# Altium footprint library ADS7824U1K.PcbLib: 3 footprints
Each footprint in its own frame and in the unit in brackets; x right, y up, seen from the top. Pads: shape width x height; smd on the part's side, far side on the other; paste and mask are expansions set on the pad; w line width, h text height; cw(c..) or ccw(c..) is an arc to the next point about the centre after c.
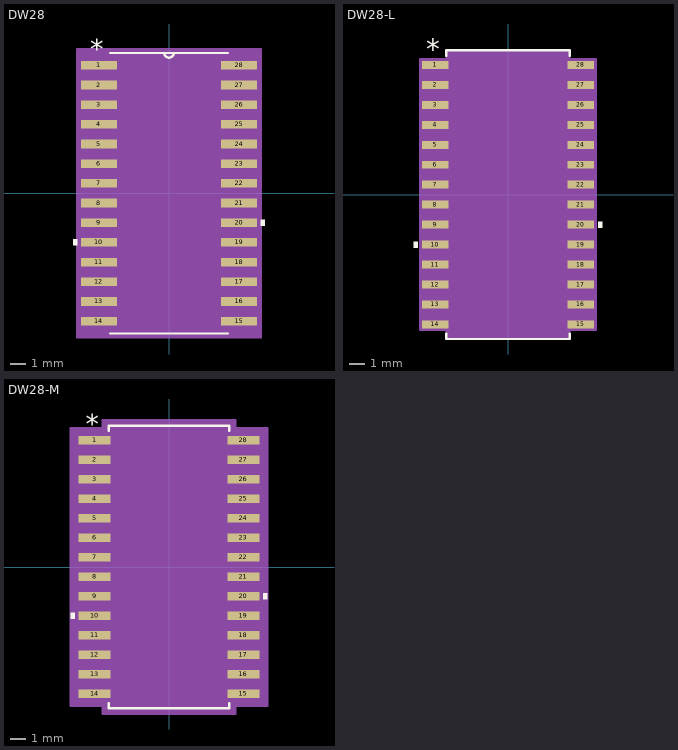
[diagram p0: the footprints below, top view; thin cyan lines are the x and y axes]

## DW28 [mil]
pads (28):
  rect 91x22 smd paste-45.5 mask-45.5: 1(-178,325) 2(-178,275) 3(-178,225) 4(-178,175) 5(-178,125) 6(-178,75) 7(-178,25) 8(-178,-25) 9(-178,-75) 10(-178,-125) 11(-178,-175) 12(-178,-225) 13(-178,-275) 14(-178,-325) 15(178,-325) 16(178,-275) 17(178,-225) 18(178,-175) 19(178,-125) 20(178,-75) 21(178,-25) 22(178,25) 23(178,75) 24(178,125) 25(178,175) 26(178,225) 27(178,275) 28(178,325)
Top Overlay:
  region: -233.5,-117.5 -243.5,-117.5 -243.5,-132.5 -233.5,-132.5
  region: 233.5,-67.5 243.5,-67.5 243.5,-82.5 233.5,-82.5
  lines w6: -149.5,-356.5 149.5,-356.5 ; -149.5,356.5 149.5,356.5 ; -12,356.5 ccw(c0,356.5) 12,356.5
  text "*" at -200.5,342 h50
Mechanical 13:
  lines w0: -12,356.5 ccw(c0,356.5) 12,356.5
  lines w1: -209.5,-335 -209.5,-315 -149.5,-315 -149.5,-335 -209.5,-335 ; -209.5,-285 -209.5,-265 -149.5,-265 -149.5,-285 -209.5,-285 ; -209.5,-235 -209.5,-215 -149.5,-215 -149.5,-235 -209.5,-235 ; -209.5,-185 -209.5,-165 -149.5,-165 -149.5,-185 -209.5,-185 ; -209.5,-135 -209.5,-115 -149.5,-115 -149.5,-135 -209.5,-135 ; -209.5,-85 -209.5,-65 -149.5,-65 -149.5,-85 -209.5,-85 ; -209.5,-35 -209.5,-15 -149.5,-15 -149.5,-35 -209.5,-35 ; -209.5,15 -209.5,35 -149.5,35 -149.5,15 -209.5,15 ; -209.5,65 -209.5,85 -149.5,85 -149.5,65 -209.5,65 ; -209.5,115 -209.5,135 -149.5,135 -149.5,115 -209.5,115 ; -209.5,165 -209.5,185 -149.5,185 -149.5,165 -209.5,165 ; -209.5,215 -209.5,235 -149.5,235 -149.5,215 -209.5,215 ; -209.5,265 -209.5,285 -149.5,285 -149.5,265 -209.5,265 ; -209.5,315 -209.5,335 -149.5,335 -149.5,315 -209.5,315 ; -149.5,-356.5 149.5,-356.5 149.5,356.5 -149.5,356.5 -149.5,-356.5 ; 149.5,-335 149.5,-315 209.5,-315 209.5,-335 149.5,-335 ; 149.5,-285 149.5,-265 209.5,-265 209.5,-285 149.5,-285 ; 149.5,-235 149.5,-215 209.5,-215 209.5,-235 149.5,-235 ; 149.5,-185 149.5,-165 209.5,-165 209.5,-185 149.5,-185 ; 149.5,-135 149.5,-115 209.5,-115 209.5,-135 149.5,-135 ; 149.5,-85 149.5,-65 209.5,-65 209.5,-85 149.5,-85 ; 149.5,-35 149.5,-15 209.5,-15 209.5,-35 149.5,-35 ; 149.5,15 149.5,35 209.5,35 209.5,15 149.5,15 ; 149.5,65 149.5,85 209.5,85 209.5,65 149.5,65 ; 149.5,115 149.5,135 209.5,135 209.5,115 149.5,115 ; 149.5,165 149.5,185 209.5,185 209.5,165 149.5,165 ; 149.5,215 149.5,235 209.5,235 209.5,215 149.5,215 ; 149.5,265 149.5,285 209.5,285 209.5,265 149.5,265 ; 149.5,315 149.5,335 209.5,335 209.5,315 149.5,315
  text "*" at -200.5,342 h50
Mechanical 15:
  region: 233.5,-366.5 -233.5,-366.5 -233.5,366.5 233.5,366.5
  lines w6: -233.5,-366.5 -233.5,366.5 233.5,366.5 233.5,-366.5 -233.5,-366.5
3D body "DW28.step": height 104.09, standoff 0, extent -209.49,-356.5 209.49,356.5

## DW28-L [mil]
pads (28):
  rect 66x20 smd paste+0 mask+0: 1(-182.5,325) 2(-182.5,275) 3(-182.5,225) 4(-182.5,175) 5(-182.5,125) 6(-182.5,75) 7(-182.5,25) 8(-182.5,-25) 9(-182.5,-75) 10(-182.5,-125) 11(-182.5,-175) 12(-182.5,-225) 13(-182.5,-275) 14(-182.5,-325) 15(182.5,-325) 16(182.5,-275) 17(182.5,-225) 18(182.5,-175) 19(182.5,-125) 20(182.5,-75) 21(182.5,-25) 22(182.5,25) 23(182.5,75) 24(182.5,125) 25(182.5,175) 26(182.5,225) 27(182.5,275) 28(182.5,325)
Top Overlay:
  region: -225.5,-117.5 -235.5,-117.5 -235.5,-132.5 -225.5,-132.5
  region: 225.5,-67.5 235.5,-67.5 235.5,-82.5 225.5,-82.5
  lines w6: -154.5,-348.1 -154.5,-361.5 154.5,-361.5 154.5,-348.1 ; -154.5,348.1 -154.5,361.5 154.5,361.5 154.5,348.1
  text "*" at -205,340 h50
Mechanical 13:
  lines w0: -12,356.5 ccw(c0,356.5) 12,356.5
  lines w1: -209.5,-335 -209.5,-315 -149.5,-315 -149.5,-335 -209.5,-335 ; -209.5,-285 -209.5,-265 -149.5,-265 -149.5,-285 -209.5,-285 ; -209.5,-235 -209.5,-215 -149.5,-215 -149.5,-235 -209.5,-235 ; -209.5,-185 -209.5,-165 -149.5,-165 -149.5,-185 -209.5,-185 ; -209.5,-135 -209.5,-115 -149.5,-115 -149.5,-135 -209.5,-135 ; -209.5,-85 -209.5,-65 -149.5,-65 -149.5,-85 -209.5,-85 ; -209.5,-35 -209.5,-15 -149.5,-15 -149.5,-35 -209.5,-35 ; -209.5,15 -209.5,35 -149.5,35 -149.5,15 -209.5,15 ; -209.5,65 -209.5,85 -149.5,85 -149.5,65 -209.5,65 ; -209.5,115 -209.5,135 -149.5,135 -149.5,115 -209.5,115 ; -209.5,165 -209.5,185 -149.5,185 -149.5,165 -209.5,165 ; -209.5,215 -209.5,235 -149.5,235 -149.5,215 -209.5,215 ; -209.5,265 -209.5,285 -149.5,285 -149.5,265 -209.5,265 ; -209.5,315 -209.5,335 -149.5,335 -149.5,315 -209.5,315 ; -149.5,-356.5 149.5,-356.5 149.5,356.5 -149.5,356.5 -149.5,-356.5 ; 149.5,-335 149.5,-315 209.5,-315 209.5,-335 149.5,-335 ; 149.5,-285 149.5,-265 209.5,-265 209.5,-285 149.5,-285 ; 149.5,-235 149.5,-215 209.5,-215 209.5,-235 149.5,-235 ; 149.5,-185 149.5,-165 209.5,-165 209.5,-185 149.5,-185 ; 149.5,-135 149.5,-115 209.5,-115 209.5,-135 149.5,-135 ; 149.5,-85 149.5,-65 209.5,-65 209.5,-85 149.5,-85 ; 149.5,-35 149.5,-15 209.5,-15 209.5,-35 149.5,-35 ; 149.5,15 149.5,35 209.5,35 209.5,15 149.5,15 ; 149.5,65 149.5,85 209.5,85 209.5,65 149.5,65 ; 149.5,115 149.5,135 209.5,135 209.5,115 149.5,115 ; 149.5,165 149.5,185 209.5,185 209.5,165 149.5,165 ; 149.5,215 149.5,235 209.5,235 209.5,215 149.5,215 ; 149.5,265 149.5,285 209.5,285 209.5,265 149.5,265 ; 149.5,315 149.5,335 209.5,335 209.5,315 149.5,315
  text "*" at -147,303.5 h50
Mechanical 15:
  region: -153.5,-339 -219.5,-339 -219.5,339 -153.5,339 -153.5,360.5 153.5,360.5 153.5,339 219.5,339 219.5,-339 153.5,-339 153.5,-360.5 -153.5,-360.5
  lines w6: -219.5,-339 -219.5,339 -153.5,339 -153.5,360.5 153.5,360.5 153.5,339 219.5,339 219.5,-339 153.5,-339 153.5,-360.5 -153.5,-360.5 -153.5,-339 -219.5,-339
3D body "DW28.step": height 104.09, standoff 0, extent -209.49,-356.5 209.49,356.5

## DW28-M [mil]
pads (28):
  rect 82x22 smd paste+0 mask+0: 1(-190.5,325) 2(-190.5,275) 3(-190.5,225) 4(-190.5,175) 5(-190.5,125) 6(-190.5,75) 7(-190.5,25) 8(-190.5,-25) 9(-190.5,-75) 10(-190.5,-125) 11(-190.5,-175) 12(-190.5,-225) 13(-190.5,-275) 14(-190.5,-325) 15(190.5,-325) 16(190.5,-275) 17(190.5,-225) 18(190.5,-175) 19(190.5,-125) 20(190.5,-75) 21(190.5,-25) 22(190.5,25) 23(190.5,75) 24(190.5,125) 25(190.5,175) 26(190.5,225) 27(190.5,275) 28(190.5,325)
Top Overlay:
  region: -241.5,-117.5 -251.5,-117.5 -251.5,-132.5 -241.5,-132.5
  region: 241.5,-67.5 251.5,-67.5 251.5,-82.5 241.5,-82.5
  lines w6: -154.5,-349.1 -154.5,-361.5 154.5,-361.5 154.5,-349.1 ; -154.5,349.1 -154.5,361.5 154.5,361.5 154.5,349.1
  text "*" at -213,342 h50
Mechanical 13:
  lines w0: -12,356.5 ccw(c0,356.5) 12,356.5
  lines w1: -209.5,-335 -209.5,-315 -149.5,-315 -149.5,-335 -209.5,-335 ; -209.5,-285 -209.5,-265 -149.5,-265 -149.5,-285 -209.5,-285 ; -209.5,-235 -209.5,-215 -149.5,-215 -149.5,-235 -209.5,-235 ; -209.5,-185 -209.5,-165 -149.5,-165 -149.5,-185 -209.5,-185 ; -209.5,-135 -209.5,-115 -149.5,-115 -149.5,-135 -209.5,-135 ; -209.5,-85 -209.5,-65 -149.5,-65 -149.5,-85 -209.5,-85 ; -209.5,-35 -209.5,-15 -149.5,-15 -149.5,-35 -209.5,-35 ; -209.5,15 -209.5,35 -149.5,35 -149.5,15 -209.5,15 ; -209.5,65 -209.5,85 -149.5,85 -149.5,65 -209.5,65 ; -209.5,115 -209.5,135 -149.5,135 -149.5,115 -209.5,115 ; -209.5,165 -209.5,185 -149.5,185 -149.5,165 -209.5,165 ; -209.5,215 -209.5,235 -149.5,235 -149.5,215 -209.5,215 ; -209.5,265 -209.5,285 -149.5,285 -149.5,265 -209.5,265 ; -209.5,315 -209.5,335 -149.5,335 -149.5,315 -209.5,315 ; -149.5,-356.5 149.5,-356.5 149.5,356.5 -149.5,356.5 -149.5,-356.5 ; 149.5,-335 149.5,-315 209.5,-315 209.5,-335 149.5,-335 ; 149.5,-285 149.5,-265 209.5,-265 209.5,-285 149.5,-285 ; 149.5,-235 149.5,-215 209.5,-215 209.5,-235 149.5,-235 ; 149.5,-185 149.5,-165 209.5,-165 209.5,-185 149.5,-185 ; 149.5,-135 149.5,-115 209.5,-115 209.5,-135 149.5,-135 ; 149.5,-85 149.5,-65 209.5,-65 209.5,-85 149.5,-85 ; 149.5,-35 149.5,-15 209.5,-15 209.5,-35 149.5,-35 ; 149.5,15 149.5,35 209.5,35 209.5,15 149.5,15 ; 149.5,65 149.5,85 209.5,85 209.5,65 149.5,65 ; 149.5,115 149.5,135 209.5,135 209.5,115 149.5,115 ; 149.5,165 149.5,185 209.5,185 209.5,165 149.5,165 ; 149.5,215 149.5,235 209.5,235 209.5,215 149.5,215 ; 149.5,265 149.5,285 209.5,285 209.5,265 149.5,265 ; 149.5,315 149.5,335 209.5,335 209.5,315 149.5,315
  text "*" at -147,303.5 h50
Mechanical 15:
  region: -169.5,-356 -251.5,-356 -251.5,356 -169.5,356 -169.5,376.5 169.5,376.5 169.5,356 251.5,356 251.5,-356 169.5,-356 169.5,-376.5 -169.5,-376.5
  lines w6: -251.5,-356 -251.5,356 -169.5,356 -169.5,376.5 169.5,376.5 169.5,356 251.5,356 251.5,-356 169.5,-356 169.5,-376.5 -169.5,-376.5 -169.5,-356 -251.5,-356
3D body "DW28.step": height 104.09, standoff 0, extent -209.49,-356.5 209.49,356.5